# Altium schematic symbol library Conn_Molex_22-23-2031_eec.SchLib: 1 symbol
Pins are listed as number, name and electrical type; pins without a type are passive.

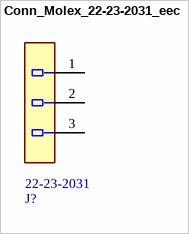
[diagram p0: symbol Conn_Molex_22-23-2031_eec]

## Conn_Molex_22-23-2031_eec
designator J?  Part Number: 22-23-2031
CONN 3 Positions Header, Unshrouded Connector 0.100" (2.54mm) Through Hole Tin; Manufacturer: Molex; Lock_to_Mating_Part: Yes; Old_Part_Number: A-6373-03A222; PCB_Thickness___Recommended: 1.60mm; PCB_Locator: No; Process_Temperature_max_C: 235; Material___Resin: Nylon; number_of_rows: 1.00; Category 75Fab8F04590Ae3D: Connectors and Adapters; PC_Tail_Length: 3.56mm; Circuits_maximum: 3; Overview: KK® Interconnect System - Molex; size_height: 0.01m; PCB_Retention: None; gender: Male; import_id: kicad_22-23-2031; number_of_positions: 3.00; Packaging_Type: Bag; Duration_at_Max_Process_Temperature_seconds: 005; Product_Name: KK® 254; Category 0836C53C3D42D3F1: Connectors; CSA: LR19980; UPC: 800753590137; Net_Weight: 0.340/g; Max_Cycles_at_Max_Process_Temperature: 001; UL: E29179; contact_material: Brass; voltage_rating_dc: 250V; Number_of_Rows: 1; Product_Specification: PS-10-07; Durability_mating_cycles_max: 25; Current___Maximum_per_Contact: 4.0A; Category E7012A0Bd22E3Cc6: Headers & Receptacles; Temperature_Range___Operating: See Product Specification; Sales_Drawing: SD-6373-001; Color___Resin: Natural (White); insulation_resistance: 0.50 TΩ; current_rating: 4.00A; Shrouded: Partial; Symbol 0 0: Standard; Lead_freeProcess_Capability: WAVE; helpURL: https://upverter.com/upn/revision/b501268ad0778a6f/; ComponentLink2Description: Datasheet; Temperature: to; Package: HDR03; Supplier 2: Mouser; Supplier 1: Digi-Key; ComponentLink1URL: https://upverter.com/upn/revision/b501268ad0778a6f/; Supplier Part Number 2: 538-22-23-2031; Supplier Part Number 1: WM4201-ND; ComponentLink1Description: Upverter; ComponentLink2URL: http://www.molex.com/pdm_docs/sd/022232031_sd.pdf; RoHS: TRUE; Flammability: 94V-0; Digikey Part Number: WM4201-ND; housing_color: White; Glow_Wire_Compliant: No; Material___Plating_Mating: Tin; Termination_Interface_Style: Through Hole; Mounting Type: through hole; Polarized_to_PCB: No; Mouser Part Number: 538-22-23-2031; Guide_to_Mating_Part: No; Application: Signal, Wire-to-Board; Pitch___Mating_Interface: 2.54mm; Digikey Description: CONN 3 Positions Header, Unshrouded Connector 0.100" (2.54mm) Through Hole Tin; housing_material: Nylon; Category: PCB Headers; 3D_model: http://www.molex.com/pdm_docs/stp/22-23-2031_stp.zip; Circuits_Loaded: 3; Status: Active; Voltage___Maximum: 250V; flammability_rating: UL 94 V-0; First_Mate__Last_Break: No; Orientation: Vertical; Polarized_to_Mating_Part: Yes; Octopart Part Number: c1fe08f4ee831e39; Pitch___Termination_Interface: 2.54mm; Stackable: No; size_length: 0.01m; Breakaway: No; Num Pins: 3; number of pins: 3; contact_plating: Tin; pin_pitch: 2.54 mm; Type: connector; number_of_contacts: 3; Lead Free: yes; part_page: http://www.molex.com/molex/products/datasheet.jsp?part=active/0022232031_PCB_HEADERS.xml; imported: yes; size_width: 0.01m; Series: 6373; Material___Metal: Brass
footprint Molex_22-23-2031_0
pins: 1, 2, 3